# Altium schematic symbol library Components - 18.02.23 - 10.49.SchLib: 1 symbol
Pins are listed as number, name and electrical type; pins without a type are passive.

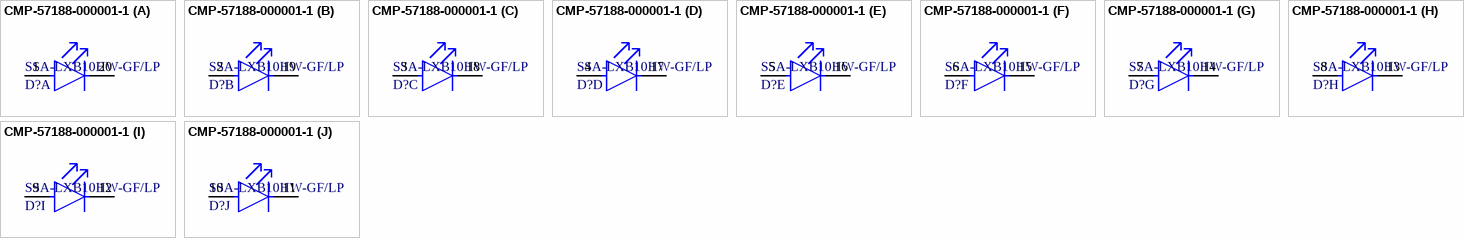
[diagram p0: symbol CMP-57188-000001-1]

## CMP-57188-000001-1
designator D?, comment SSA-LXB10HW-GF/LP
LED ARRAY 10X25MM 10SEG RED DIFF; Manufacturer: lumex; Luminous Intensity: 500mcd; Power Dissipation: 105mW; Forward Current: 20mA; Display Type: Bar Graph; Reverse Voltage: 5V; Forward Voltage: 2V; Viewing Angle: 160°; RoHS: TRUE; Device Class L2: Displays; Octopart: https://octopart.com/ssa-lxb10hw-gf%2Flp-lumex-548235; Digikey Description: LED ARRAY 10X25MM 10SEG RED DIFF; Test Current: 20mA; Manufacturer Part Number: SSA-LXB10HW-GF/LP; Device Class L1: Optoelectronics; Mouser Description: LED Bars and Arrays 10 Segment Red; Temperature Range Low: -40°C; ComponentLink2URL: https://www.lumex.com/spec/SSA-LXB10HW-GF-LP.pdf; Automotive: No; Height: 7.05mm; Device Class L3: LED Displays; Category: Diode; Package: SSA-LXB10HW-GF/LP; Temperature: -40°C to +85°C; ComponentLink2Description: Datasheet; Temperature Range High: +85°C; Lead Free: Yes
footprint FP-SSA-LXB10HW-GF-LP-MFG
part A pins: 1 1 ANODE, 20 1 CATHODE
part B pins: 2 2 ANODE, 19 2 CATHODE
part C pins: 3 3 ANODE, 18 3 CATHODE
part D pins: 4 4 ANODE, 17 4 CATHODE
part E pins: 5 5 ANODE, 16 5 CATHODE
part F pins: 6 6 ANODE, 15 6 CATHODE
part G pins: 7 7 ANODE, 14 7 CATHODE
part H pins: 8 8 ANODE, 13 8 CATHODE
part I pins: 9 9 ANODE, 12 9 CATHODE
part J pins: 10 10 ANODE, 11 10 CATHODE